# Altium schematic symbol library FERRITE BEAD 200 MOHM 0603 1LN.Schlib: 1 symbol
Pins are listed as number, name and electrical type; pins without a type are passive.

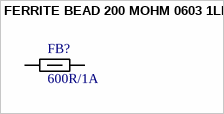
[diagram p0: symbol FERRITE BEAD 200 MOHM 0603 1LN]

## FERRITE BEAD 200 MOHM 0603 1LN
designator FB?, comment 600R/1A
WURTH ELEKTRONIK - 742792651 - Ferrite Bead, 0603 [1608 Metric], 600 ohm, 1 A, WE-CBF Series, 0.2 ohm, &#177; 25%
footprint 0603 (Chip Resistor, 2-Leads, Body 1.60x0.80mm, IPC High Density)
pins: 1, 2